# EAGLE library part JST-10PIN (library con-jst)
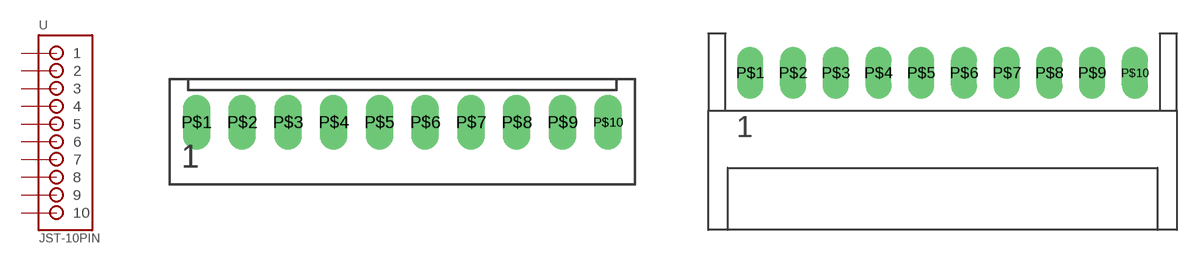
[diagram p1: symbol with the pads of B10B-XH; footprints B10B-XH, S10B-XH]

Designator prefix -

## JST-10PIN-XHB  [B10B-XH]
P$1  1
P$2  2
P$3  3
P$4  4
P$5  5
P$6  6
P$7  7
P$8  8
P$9  9
P$10  10

## JST-10PIN-XHS  [S10B-XH]
Pads as for B10B-XH

## Footprint B10B-XH (pad centres in mm)
drill 1 long: P$1 -11.25,0; P$2 -8.75,0; P$3 -6.25,0; P$4 -3.75,0; P$5 -1.25,0; P$6 1.25,0; P$7 3.75,0; P$8 6.25,0; P$9 8.75,0; P$10 11.25,0

## Footprint S10B-XH (pad centres in mm)
drill 1 long: P$1 -11.25,0; P$2 -8.75,0; P$3 -6.25,0; P$4 -3.75,0; P$5 -1.25,0; P$6 1.25,0; P$7 3.75,0; P$8 6.25,0; P$9 8.75,0; P$10 11.25,0